# Altium schematic symbol library GC9A01.SchLib: 1 symbol
Pins are listed as number, name and electrical type; pins without a type are passive.

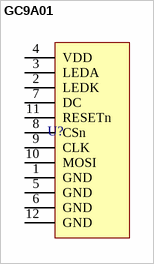
[diagram p0: symbol GC9A01]

## GC9A01
designator U?  (value not drawn)
pins: 1 GND, 2 LEDK, 3 LEDA, 4 VDD, 5 GND, 6 GND, 7 DC, 8 CSn, 9 CLK, 10 MOSI, 11 RESETn, 12 GND